# EAGLE library part ICSP (library magzor)
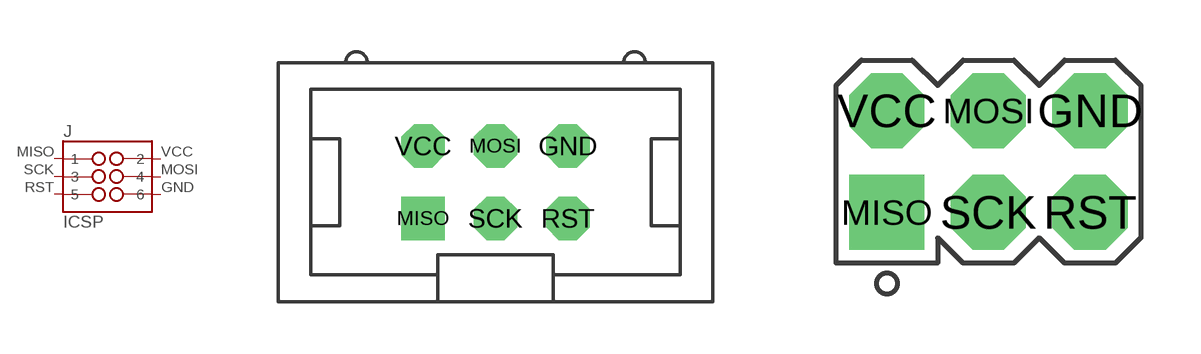
[diagram p8: symbol with the pads of HEADER-2X03-ICSP; footprints HEADER-2X03-ICSP, HEADER-2X03-ICSP-SM]

Designator prefix J

## ICSP  [HEADER-2X03-ICSP]
GND  6
MISO  1
MOSI  4
RST  5
SCK  3
VCC  2

## ICSP-SM  [HEADER-2X03-ICSP-SM]
Pads as for HEADER-2X03-ICSP

## Footprint HEADER-2X03-ICSP (pad centres in mm)
for locking header, 0.1" pitch
drill 1.016 octagon: GND 2.54,1.27; MOSI 0,1.27; RST 2.54,-1.27; SCK 0,-1.27; VCC -2.54,1.27
drill 1.016 square: MISO -2.54,-1.27

## Footprint HEADER-2X03-ICSP-SM (pad centres in mm)
for plain header, still 0.1" pitch
drill 1.016 pad 1.88 octagon: GND 2.54,1.27; MOSI 0,1.27; RST 2.54,-1.27; SCK 0,-1.27; VCC -2.54,1.27
drill 1.016 pad 1.88 square: MISO -2.54,-1.27